# Altium footprint library Miscellaneous Devices.PcbLib: 214 footprints (part 4 of 14)
Each footprint in its own frame and in the unit in brackets; x right, y up, seen from the top. Pads: shape width x height; smd on the part's side, far side on the other; paste and mask are expansions set on the pad; w line width, h text height; cw(c..) or ccw(c..) is an arc to the next point about the centre after c.
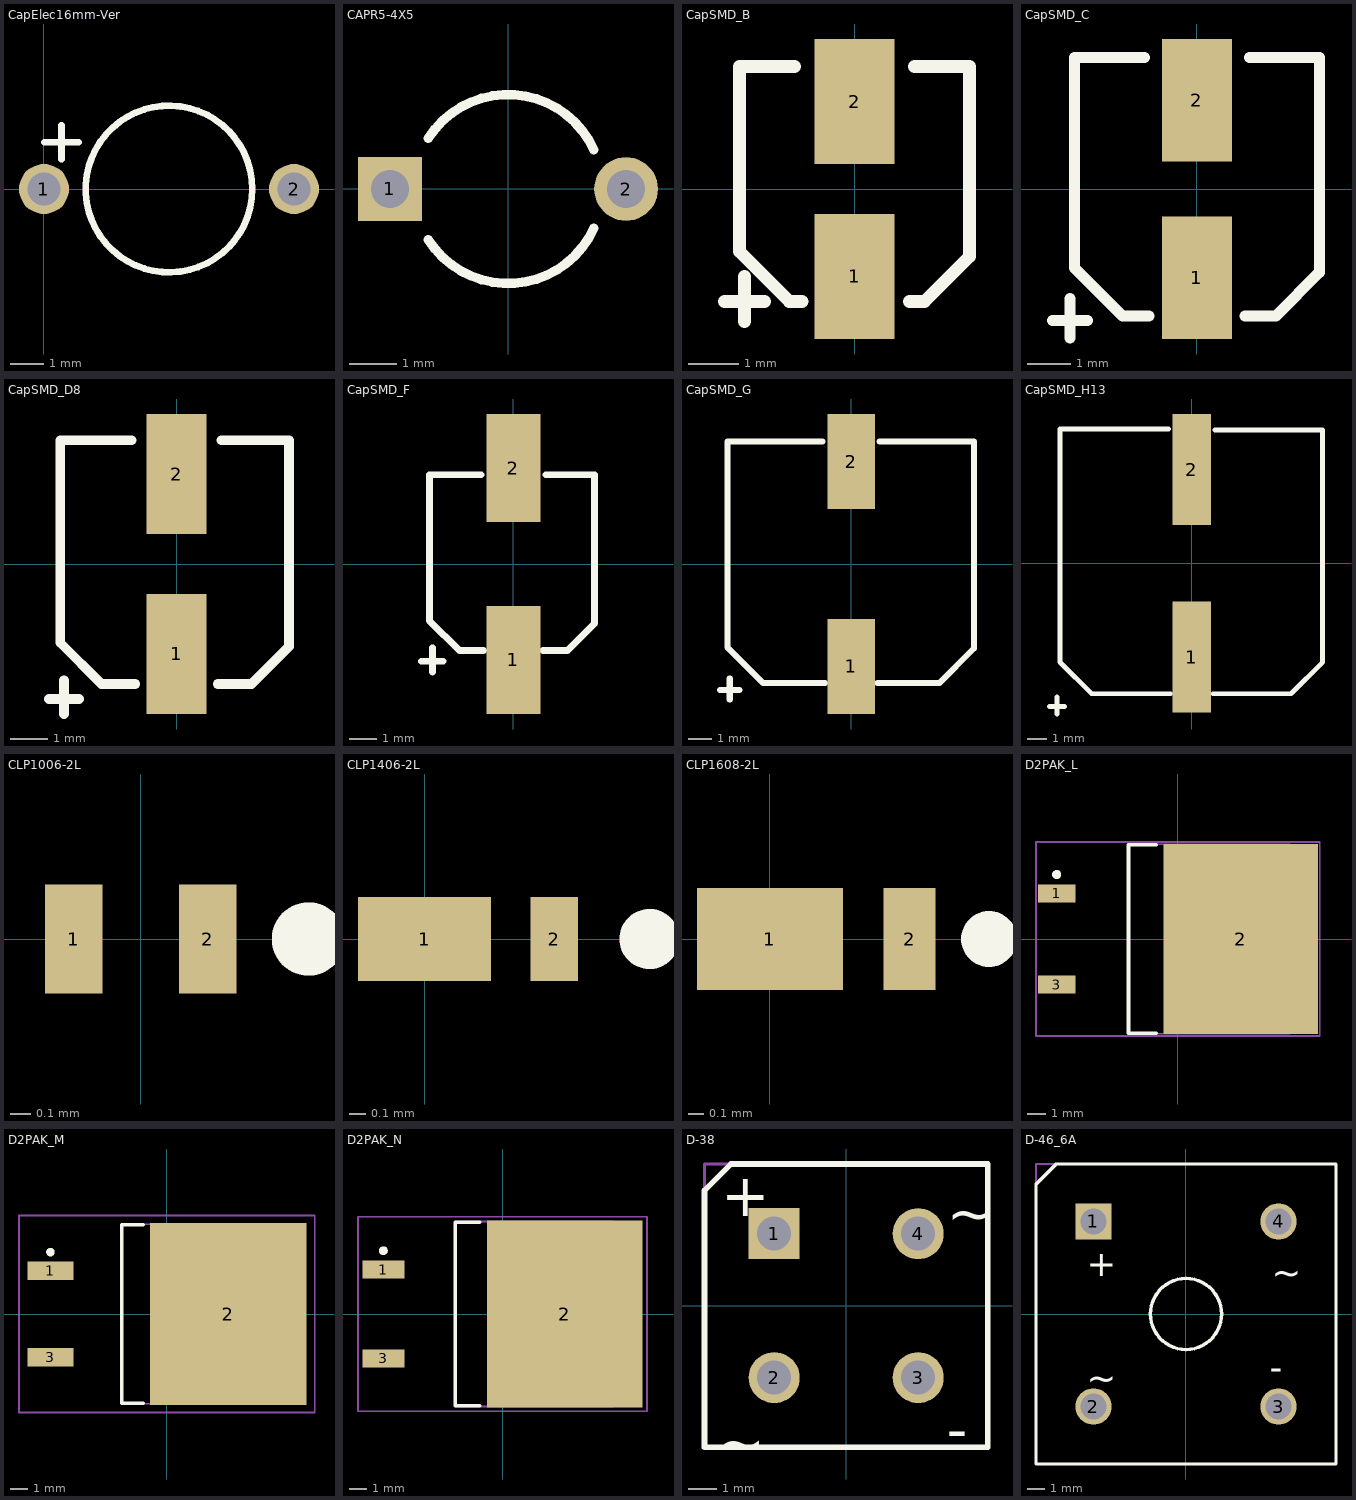
[diagram p3: the footprints below, top view; thin cyan lines are the x and y axes]

## CapElec16mm-Ver [mm]
pads (2):
  round 1.5 hole 1: 1(0,0) 2(7.5,0)
Top Overlay:
  circle w0.2: c3.75,0 r2.5
  lines w0.2: 0.017,1.4 1.033,1.4 ; 0.525,0.892 0.525,1.908
3D body "CAP electrolitico 16x25mm - vertical.STEP": height 26, standoff -4.75, extent -4.265,-8.015 11.765,8.015

## CAPR5-4X5 [mm] "Capacitor; 2 Leads"
height 12
pads (2):
  rect 1.35x1.35 hole 0.8: 1(-2.5,0)
  round 1.35 hole 0.8: 2(2.5,0)
Top Overlay:
  lines w0.2: -1.687,-1.075 ccw(c0,0) 1.819,-0.832 ; -1.687,1.075 cw(c0,0) 1.819,0.832

## CapSMD_B [mm] "condensadores electrolitico SMD.  code size: C del Standard"
height 5.8
pads (2):
  rect 1.6x2.5 smd: 1(0,-1.75) 2(0,1.75)
Top Overlay:
  lines w0.254: -2.6,-2.25 -1.8,-2.25 ; -2.2,-2.65 -2.2,-1.75 ; -1.306,-2.25 -1.05,-2.25 ; -1.3,-2.25 -2.3,-1.25 -2.3,2.45 -1.2,2.45 ; 1.1,-2.25 1.4,-2.25 2.3,-1.35 2.3,2.45 1.2,2.45
3D body "CAP electrolitico SMD code B.STEP": height 5.41, standoff -0.01, extent -2.15,-2.15 2.15,2.45

## CapSMD_C [mm] "condensadores electrolitico SMD.  code size: C del Standard"
height 5.8
pads (2):
  rect 1.6x2.8 smd: 1(0,-2.025) 2(0,2.025)
Top Overlay:
  lines w0.254: -3.3,-3 -2.5,-3 ; -2.9,-3.4 -2.9,-2.5 ; -1.2,3 -2.8,3 -2.8,-1.8 -1.7,-2.9 -1.1,-2.9 ; 1.1,-2.9 1.8,-2.9 2.8,-1.9 2.8,3 1.2,3
3D body "CAP electrolitico SMD code C.step": height 5.41, standoff -0.01, extent -2.65,-2.95 2.65,2.95

## CapSMD_D8 [mm] "condensadores electrolitico SMD.  code size: D8 del Standard"
height 7.7
pads (2):
  rect 1.6x3.2 smd: 1(0,-2.4) 2(0,2.4)
Top Overlay:
  lines w0.254: -3.4,-3.6 -2.6,-3.6 ; -3,-4 -3,-3.1 ; -1.2,3.3 -3.1,3.3 -3.1,-2.1 -2,-3.2 -1.1,-3.2 ; 1.1,-3.2 2,-3.2 3,-2.2 3,3.3 1.2,3.3

## CapSMD_F [mm] "condensadores electrolitico SMD.  code size: F del Standard"
height 10.2
pads (2):
  rect 2x4 smd: 1(0,-3.55) 2(0,3.55)
Top Overlay:
  lines w0.254: -3.4,-3.6 -2.6,-3.6 ; -3,-4 -3,-3.1 ; -1.2,3.3 -3.1,3.3 -3.1,-2.1 -2,-3.2 -1.1,-3.2 ; 1.1,-3.2 2,-3.2 3,-2.2 3,3.3 1.2,3.3
3D body "capacitor size F.STEP": height 10.21, standoff -0.01, extent -4.15,-4.95 4.15,4.95

## CapSMD_G [mm] "condensadores electrolitico SMD.  code size: G del Standard"
height 10.2
pads (2):
  rect 2x4 smd: 1(0,-4.3) 2(0,4.3)
Top Overlay:
  lines w0.254: -5.5,-5.3 -4.7,-5.3 ; -5.2,5.15 -5.2,-3.5 -3.7,-5 -1.1,-5 ; -5.15,5.15 -1.2,5.15 ; -5.1,-5.7 -5.1,-4.8 ; 1.1,-5 3.7,-5 5.15,-3.55 5.15,-1.65 5.15,5.15 1.2,5.15
3D body "CAP electrolitico SMD code G.STEP": height 10.21, standoff -0.3, extent -5.25,-5.7 5.05,5.9

## CapSMD_H13 [mm] "condensadores electrolitico SMD.  code size: H13 del Standard"
height 13.8
pads (2):
  rect 2x5.8 smd: 1(0,-4.9) 2(0,4.9)
Top Overlay:
  lines w0.254: -7.436,-7.468 -6.636,-7.468 ; -7.036,-7.868 -7.036,-6.968 ; -1.2,7.01 -6.883,7.01 -6.883,-5.156 -5.233,-6.807 -1.1,-6.807 ; 1.1,-6.807 5.182,-6.807 6.833,-5.156 6.833,6.96 1.2,6.96
3D body "CAP electrolitico SMD code H13.STEP": height 13.11, standoff 0, extent -6.75,-6.9 6.75,6.9

## CLP1006-2L [mm]
pads (2):
  rect 0.28x0.53 smd: 1(-0.325,0) 2(0.325,0)
Top Overlay:
  circle w0.254: c0.813,0 r0.051
3D body "CLP1006-2L.stp": height 0.27, standoff -0.01, extent -0.505,-0.305 0.505,0.305

## CLP1406-2L [mm]
pads (2):
  rect 0.79x0.5 smd: 1(0,0)
  rect 0.28x0.5 smd: 2(0.77,0)
Top Overlay:
  circle w0.254: c1.335,0 r0.051
3D body "CLP1406-2L.stp": height 0.27, standoff -0.01, extent -0.446,-0.305 0.954,0.295

## CLP1608-2L [mm]
pads (2):
  rect 0.93x0.65 smd: 1(0,0)
  rect 0.33x0.65 smd: 2(0.89,0)
Top Overlay:
  circle w0.254: c1.397,0 r0.051
3D body "CLP1608-2L.stp": height 0.27, standoff -0.01, extent -0.495,-0.4 1.105,0.4

## D2PAK_L [mm] "D2-PAK, 4-Leads, Body 8.8x10.4mm, Pitch 2.54mm, Lead Span 15.1mm, IPC High Density"
height 4.69
pads (3):
  rect 2.1x1 smd: 1(-6.75,2.54) 3(-6.75,-2.54)
  rect 8.6x10.6 smd: 2(3.5,0)
Top Overlay:
  circle w0.25: c-6.75,3.59 r0.125
  lines w0.2: -1.2,-5.25 -2.75,-5.25 -2.75,5.25 -1.2,5.25
Mechanical 13:
  lines w0.1: -2.75,-5.275 -2.75,5.275 6.25,5.275 6.25,-5.275 -2.75,-5.275
Mechanical 15:
  lines w0.1: -0.5,0 0.5,0 ; 0,-0.5 0,0.5 ; -7.9,-5.4 -7.9,5.4 7.9,5.4 7.9,-5.4 -7.9,-5.4
3D body: height 4.69, standoff 0, extent -2.75,-5.275 6.25,5.275

## D2PAK_M [mm] "D2-PAK, 4-Leads, Body 8.8x10.4mm, Pitch 2.54mm, Lead Span 15.1mm, IPC Low Density"
height 4.69
pads (3):
  rect 2.7x1.1 smd: 1(-6.85,2.54) 3(-6.85,-2.54)
  rect 9.2x10.7 smd: 2(3.6,0)
Top Overlay:
  circle w0.25: c-6.85,3.64 r0.125
  lines w0.2: -1.4,-5.25 -2.65,-5.25 -2.65,5.25 -1.4,5.25
Mechanical 13:
  lines w0.1: -2.65,-5.275 6.35,-5.275 6.35,5.275 -2.65,5.275 -2.65,-5.275
Mechanical 15:
  lines w0.1: -0.5,0 0.5,0 ; 0,-0.5 0,0.5 ; -8.7,-5.8 8.7,-5.8 8.7,5.8 -8.7,5.8 -8.7,-5.8
3D body: height 4.69, standoff 0, extent -2.65,-5.275 6.35,5.275

## D2PAK_N [mm] "D2-PAK, 4-Leads, Body 8.8x10.4mm, Pitch 2.54mm, Lead Span 15.1mm, IPC Medium Density"
height 4.69
pads (3):
  rect 2.4x1.05 smd: 1(-6.8,2.54) 3(-6.8,-2.54)
  rect 8.9x10.65 smd: 2(3.55,0)
Top Overlay:
  circle w0.25: c-6.8,3.615 r0.125
  lines w0.2: -1.3,-5.25 -2.7,-5.25 -2.7,5.25 -1.3,5.25
Mechanical 13:
  lines w0.1: -2.7,-5.275 -2.7,5.275 6.3,5.275 6.3,-5.275 -2.7,-5.275
Mechanical 15:
  lines w0.1: -0.5,0 0.5,0 ; 0,-0.5 0,0.5 ; -8.25,-5.55 -8.25,5.55 8.25,5.55 8.25,-5.55 -8.25,-5.55
3D body: height 4.69, standoff 0, extent -2.7,-5.275 6.3,5.275

## D-38 [mm] "Bridge Rectifier; 4 Terminals; Body 9.4 x 9.4 mm (typ); Pitch 5.08 mm"
height 9.91
pads (4):
  rect 1.8x1.8 hole 1.2: 1(-2.54,2.54)
  round 1.8 hole 1.2: 2(-2.54,-2.54) 3(2.54,-2.54) 4(2.54,2.54)
Top Overlay:
  lines w0.2: -5,-5 5,-5 5,5 -4.064,5 -5,4.064 -5,-5
  text "~" at 3.556,2.54 h1.5
  text "~" at -4.572,-5.588 h1.5
  text "-" at 3.556,-5.08 h1.5
  text "+" at -4.41,3.164 h1.5
Mechanical 13:
  lines w0.1: -5,-5 5,-5 5,5 -5,5 -5,-5
3D body: height 9.91, standoff 0, extent -5,-5 5,5

## D-46_6A [mm] "Bridge Rectifier; 4 Terminals; Body 16.8 x 16.8 mm (typ); Pitch 10.67 mm"
height 6.35
pads (4):
  rect 2.1x2.1 hole 1.5: 1(-5.335,5.335)
  round 2.1 hole 1.5: 2(-5.335,-5.335) 3(5.335,-5.335) 4(5.335,5.335)
Top Overlay:
  circle w0.2: c0,0 r2.05
  lines w0.2: -8.65,-8.65 8.65,-8.65 8.65,8.65 -7.474,8.65 -8.65,7.474 -8.65,-8.65
  text "~" at -5.723,-4.437 h1.5
  text "~" at 4.945,1.659 h1.5
  text "-" at 4.825,-3.809 h1.5
  text "+" at -5.723,2.167 h1.5
Mechanical 13:
  lines w0.1: -8.65,-8.65 -8.65,8.65 8.65,8.65 8.65,-8.65 -8.65,-8.65
3D body: height 6.35, standoff 0, extent -8.65,-8.65 8.65,8.65